# Altium footprint library SEMI.PcbLib: 47 footprints (part 2 of 3)
Each footprint in its own frame and in the unit in brackets; x right, y up, seen from the top. Pads: shape width x height; smd on the part's side, far side on the other; paste and mask are expansions set on the pad; w line width, h text height; cw(c..) or ccw(c..) is an arc to the next point about the centre after c.
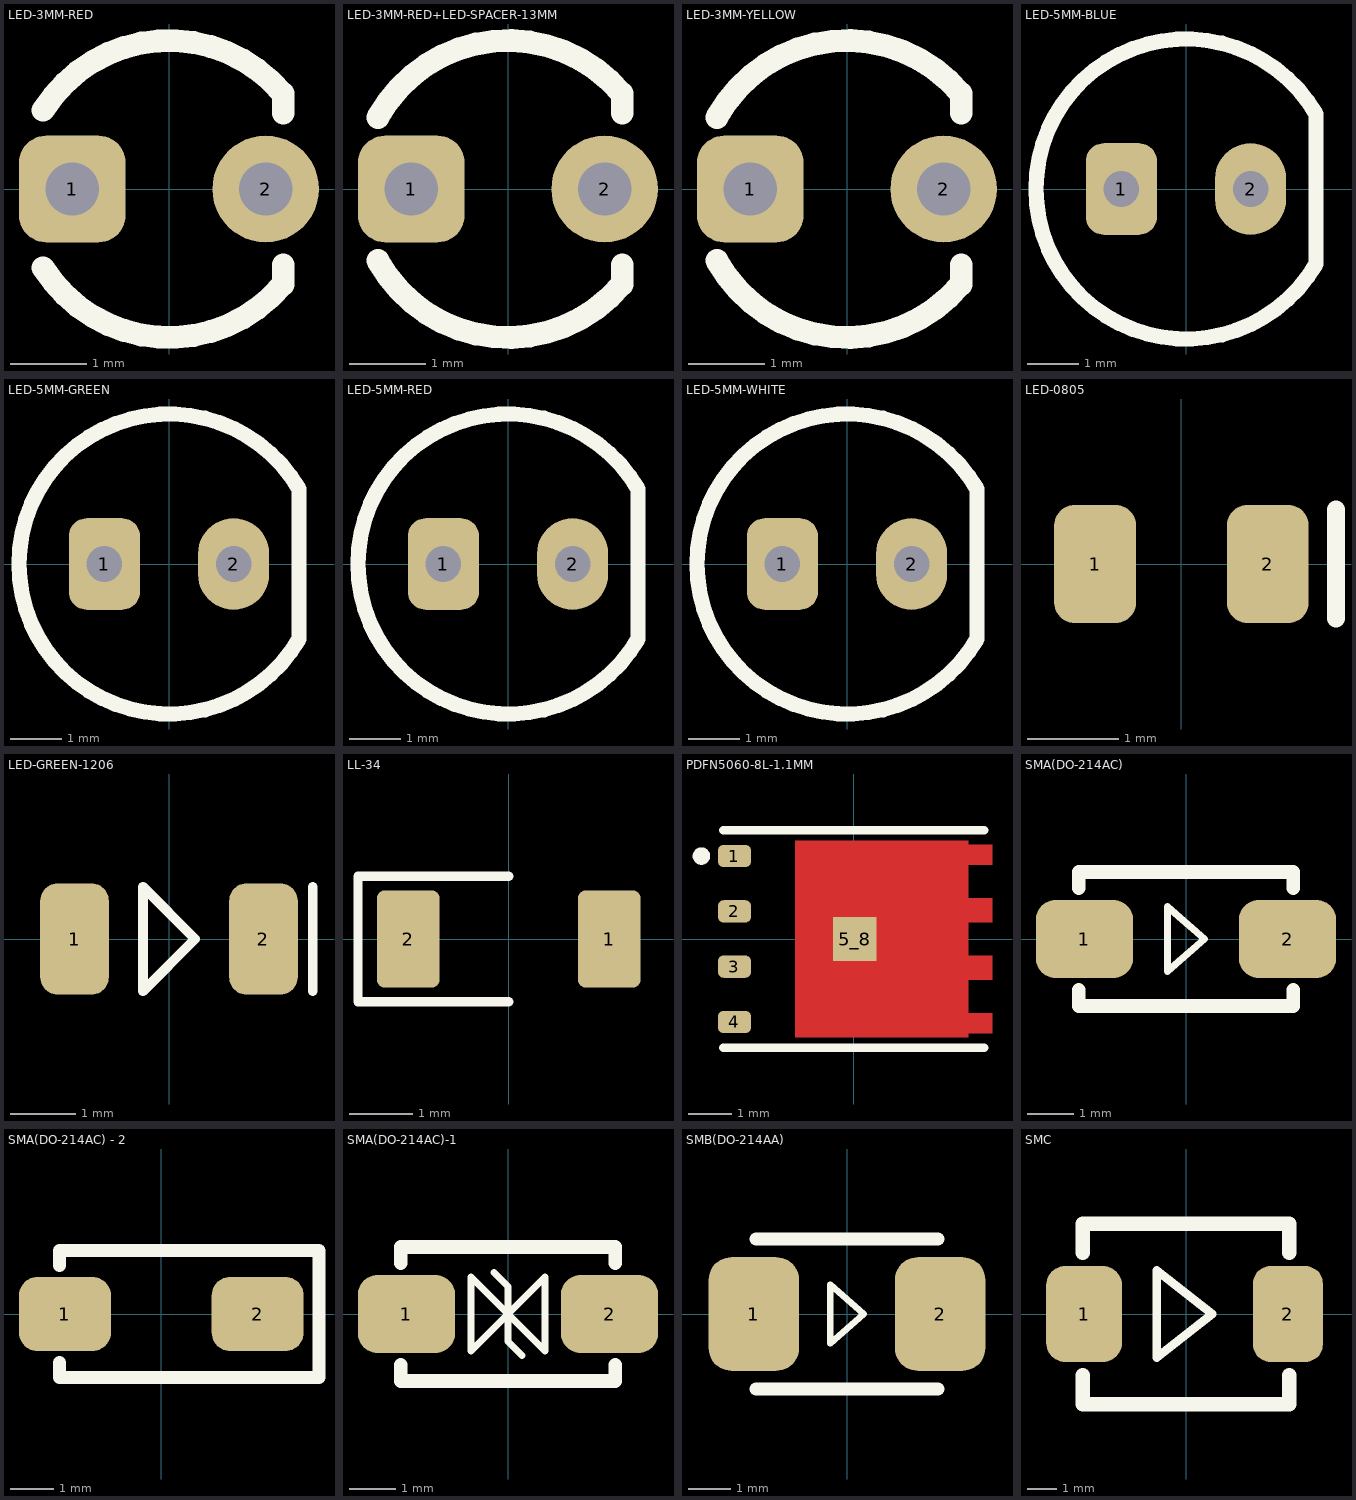
[diagram p1: the footprints below, top view; thin cyan lines are the x and y axes]

## LED-3MM-RED [mm]
pads (2):
  rrect50% 1.4x1.4 hole 0.7 mask+0.15: 1(-1.27,0)
  round 1.4 hole 0.7 mask+0.15: 2(1.27,0)
Top Overlay:
  lines w0.3: -1.654,-1.033 ccw(c0,0) 1.494,-1.253 ; -1.654,1.033 cw(c0,0) 1.494,1.253 ; 1.5,-1.253 1.5,-1 ; 1.5,1 1.5,1.253
3D body "LED RED 3MM.step": height 5.25, standoff -17, extent -1.95,-1.949 1.45,1.949

## LED-3MM-RED+LED-SPACER-13MM [mm]
pads (2):
  rrect50% 1.4x1.4 hole 0.7 mask+0.15: 1(-1.27,0)
  round 1.4 hole 0.7 mask+0.15: 2(1.27,0)
Top Overlay:
  lines w0.3: -1.709,-0.94 ccw(c0,0) 1.494,-1.253 ; -1.709,0.94 cw(c0,0) 1.494,1.253 ; 1.5,-1.253 1.5,-1 ; 1.5,1 1.5,1.253
3D body "LED RED 3MM.step": height 18.25, standoff -4, extent -1.95,-1.949 1.45,1.949

## LED-3MM-YELLOW [mm]
pads (2):
  rrect50% 1.4x1.4 hole 0.7 mask+0.15: 1(-1.27,0)
  round 1.4 hole 0.7 mask+0.15: 2(1.27,0)
Top Overlay:
  lines w0.3: -1.709,-0.94 ccw(c0,0) 1.494,-1.253 ; -1.709,0.94 cw(c0,0) 1.494,1.253 ; 1.5,-1.253 1.5,-1 ; 1.5,1 1.5,1.253
3D body "LED-3mm-YELLOW.step": height 5.39, standoff -2.99, extent -1.925,-1.924 1.52,1.924

## LED-5MM-BLUE [mm]
pads (2):
  rrect50% 1.4x1.8 hole 0.7 mask+0.15: 1(-1.27,0)
  oval 1.4x1.8 hole 0.7 mask+0.15: 2(1.27,0)
Top Overlay:
  lines w0.3: 2.555,-1.475 cw(c0,0) 2.555,1.475 2.555,-1.475
3D body "LED 5mm Blue.step": height 8.72, standoff -2.98, extent -2.9,-2.9 2.5,2.9

## LED-5MM-GREEN [mm]
pads (2):
  rrect50% 1.4x1.8 hole 0.7 mask+0.15: 1(-1.27,0)
  oval 1.4x1.8 hole 0.7 mask+0.15: 2(1.27,0)
Top Overlay:
  lines w0.3: 2.555,-1.475 cw(c0,0) 2.555,1.475 2.555,-1.475
3D body "LED 5mm Green.step": height 8.72, standoff -2.98, extent -2.9,-2.9 2.5,2.9

## LED-5MM-RED [mm]
pads (2):
  rrect50% 1.4x1.8 hole 0.7 mask+0.15: 1(-1.27,0)
  oval 1.4x1.8 hole 0.7 mask+0.15: 2(1.27,0)
Top Overlay:
  lines w0.3: 2.555,-1.475 cw(c0,0) 2.555,1.475 2.555,-1.475
3D body "5mm_LED_Red-0[1].stp": height 8.75, standoff -25.25, extent -2.95,-2.95 2.52,2.95

## LED-5MM-WHITE [mm]
pads (2):
  rrect50% 1.4x1.8 hole 0.7 mask+0.15: 1(-1.27,0)
  oval 1.4x1.8 hole 0.7 mask+0.15: 2(1.27,0)
Top Overlay:
  lines w0.3: 2.555,-1.475 cw(c0,0) 2.555,1.475 2.555,-1.475
3D body "LED 5mm white.step": height 8.7, standoff -25, extent -2.9,-2.9 2.5,2.9

## LED-0805 [mm]
pads (2):
  rrect50% 0.9x1.3 smd: 1(-0.95,0) 2(0.95,0)
Top Overlay:
  lines w0.2: 1.7,-0.6 1.7,0.6
3D body "0805 Red.step": height 0.78, standoff 0, extent -1,-0.625 1,0.625

## LED-GREEN-1206 [mm]
pads (2):
  rrect50% 1.05x1.7 smd: 1(-1.445,0) 2(1.445,0)
Top Overlay:
  lines w0.15: 2.2,-0.8 2.2,0.8 ; 0.4,0 -0.4,-0.8 -0.4,0 -0.4,0.8 0.4,0 ; 0.4,0 0.4,0
3D body "LED_1206_Green.stp": height 0.9, standoff 0, extent -1.638,-0.825 1.632,0.825

## LL-34 [mm]
height 1.5
pads (2):
  rrect25% 1x1.55 smd: 1(1.6,0) 2(-1.6,0)
Top Overlay:
  lines w0.15: 0,-1 -2.4,-1 -2.4,1 0,1
3D body "FDLL400.STEP": height 1.4, standoff 0, extent -1.7,-0.7 1.7,0.7

## PDFN5060-8L-1.1MM [mm]
height 1.1
pads (5):
  rrect50% 0.76x0.51 smd: 1(-2.74,1.905) 2(-2.74,0.635) 3(-2.74,-0.635) 4(-2.74,-1.905)
  rect 1x1 smd paste-1 mask+0: 5_8(0.025,0)
Top Layer:
  region: 3.18,1.7 2.63,1.7 2.63,0.94 3.18,0.94 3.18,0.38 2.63,0.38 2.63,-0.38 3.18,-0.38 3.18,-0.94 2.63,-0.94 2.63,-1.7 3.18,-1.7 3.18,-2.16 2.63,-2.16 2.63,-2.26 -1.34,-2.26 -1.34,2.26 2.63,2.26 2.63,2.16 3.18,2.16
Top Overlay:
  circle w0.2: c-3.5,1.905 r0.1
  lines w0.2: -3,-2.5 3,-2.5 ; -3,2.5 3,2.5
Top Paste:
  region: 0.35,0.225 -0.93,0.225 -0.93,1.295 0.35,1.295
  region: 2.08,0.225 0.8,0.225 0.8,1.295 2.08,1.295
  region: 2.08,-1.295 0.8,-1.295 0.8,-0.225 2.08,-0.225
  region: 0.35,-1.295 -0.93,-1.295 -0.93,-0.225 0.35,-0.225
  region: 3.18,0.38 2.38,0.38 2.38,0.94 3.18,0.94
  region: 3.18,-2.16 2.38,-2.16 2.38,-1.7 3.18,-1.7
  region: 3.18,-0.94 2.38,-0.94 2.38,-0.38 3.18,-0.38
  region: 3.18,1.7 2.38,1.7 2.38,2.16 3.18,2.16
Top Solder:
  region: 3.29,1.6 2.73,1.6 2.73,1.04 3.29,1.04 3.29,0.28 2.73,0.28 2.73,-0.28 3.29,-0.28 3.29,-1.04 2.73,-1.04 2.73,-1.6 3.29,-1.6 3.29,-2.36 -1.44,-2.36 -1.44,2.36 3.29,2.36
3D body "TSM025NB04CRRLG.STEP": height 1.1, standoff 0, extent -2.975,-2.45 3.025,2.45

## SMA(DO-214AC) [mm]
pads (2):
  rrect50% 2.1x1.7 smd: 1(-2.2,0) 2(2.2,0)
Top Overlay:
  lines w0.15: -0.4,-0.7 0.4,0 -0.4,0.7 -0.4,-0.7
  lines w0.3: -2.325,-1.104 -2.325,-1.45 2.325,-1.45 2.325,-1.104 ; -2.325,1.104 -2.325,1.45 2.325,1.45 2.325,1.104
3D body "SMA(DO-214AC).STEP": height 2.44, standoff 0.04, extent -2.6,-1.3 2.6,1.3

## SMA(DO-214AC) - 2 [mm]
pads (2):
  rrect50% 2.1x1.7 smd: 1(-2.2,0) 2(2.2,0)
Top Overlay:
  lines w0.3: -2.325,-1.104 -2.325,-1.45 3.6,-1.45 3.6,1.45 -2.325,1.45 -2.325,1.104
3D body "SMA(DO-214AC).STEP": height 2.44, standoff 0.04, extent -2.6,-1.3 2.6,1.3

## SMA(DO-214AC)-1 [mm]
pads (2):
  rrect50% 2.1x1.7 smd: 1(-2.2,0) 2(2.2,0)
Top Overlay:
  lines w0.15: -0.3,0.9 0,0.6 0,-0.6 0.3,-0.9 ; 0,0 0.8,-0.8 0.8,0.8 0,0 ; 0,0 -0.8,-0.8 -0.8,0.8 0,0
  lines w0.3: -2.325,-1.104 -2.325,-1.45 2.325,-1.45 2.325,-1.104 ; -2.325,1.104 -2.325,1.45 2.325,1.45 2.325,1.104
3D body "SMA6J12A.step": height 2.5, standoff 0, extent -2.57,-1.28 2.57,1.28

## SMB(DO-214AA) [mm]
pads (2):
  rrect50% 2.15x2.7 smd: 1(-2.21,0) 2(2.21,0)
Top Overlay:
  lines w0.15: -0.4,-0.7 0.4,0 -0.4,0.7 -0.4,-0.7
  lines w0.3: -2.16,-1.78 2.16,-1.78 ; -2.16,1.78 2.16,1.78
3D body "SMB.STEP": height 2.33, standoff 0.03, extent -2.7,-1.78 2.7,1.78

## SMC [mm]
pads (2):
  rrect50% 2.6x3.3 smd: 1(-3.5,0)
  rrect50% 2.4x3.3 smd: 2(3.5,0)
Top Overlay:
  lines w0.3: -1,-1.5 -1,1.5 0.9,0 -1,-1.5
  lines w0.5: -3.55,-2.1 -3.55,-3.1 3.55,-3.1 3.55,-2.1 ; -3.55,2.1 -3.55,3.1 3.55,3.1 3.55,2.1
3D body "SMC.step": height 2.27, standoff 0, extent -3.97,-2.953 3.97,2.953